# Altium schematic symbol library Schlib1.SchLib: 76 symbols (part 2 of 3)
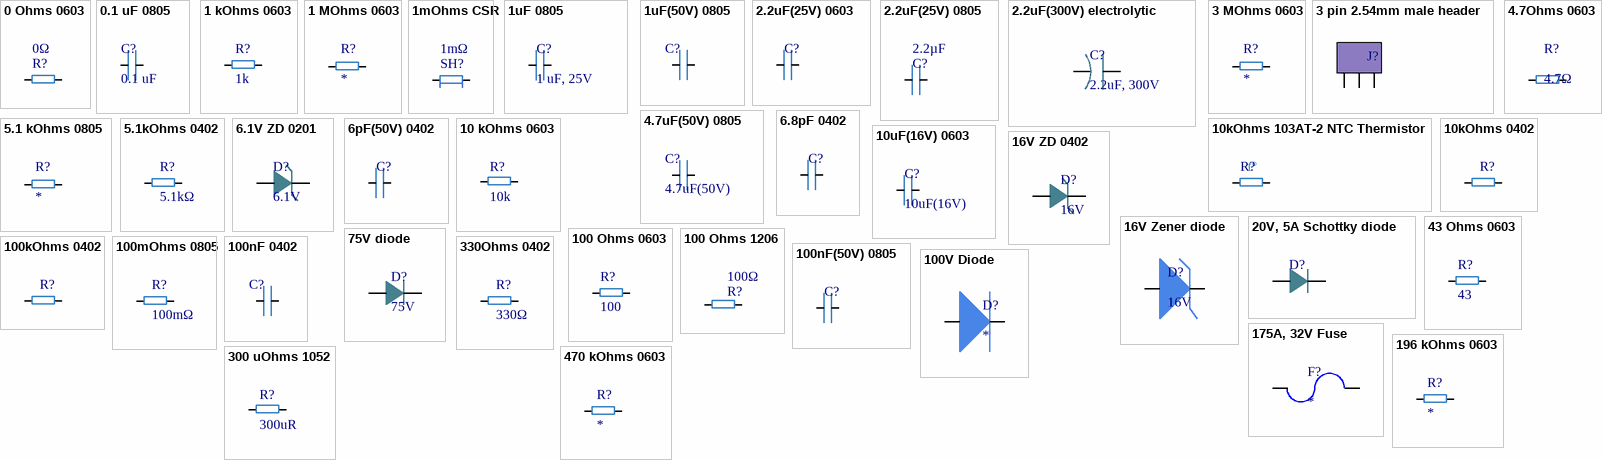
[diagram p2: symbols 0 Ohms 0603 to 470 kOhms 0603]

## 43 Ohms 0603
designator R?, comment 43
Fixed Resistor, Metal Glaze/thick Film, 0.1W, 43ohm, 75V, 1% +/-Tol, 100ppm/Cel, Surface Mount, 0603; Manufacturer: Bourns; Manufacturer Part Number: CR0603-FX-43R0ELF; Power: 100mW; Rated Temperature: 70°C; Value: 43R; Working Voltage: 50V; Temperature Coefficient (ppm/Cel): 100; Package Height: 0.45mm; Package Length: 1.6mm; Package Width: 0.8mm; Supplier: Mouser; Supplier Part Number: 652-CR0603FX-43R0ELF; RoHS: Yes; Category: Chip SMD Resistors; Stock: 66182; Pricing: 1=0.1, 10=0.012, 50=0.012, 100=0.01, 1000=0.005, 10000=0.002 (USD); Mounting Technology: Surface Mount; Pins: 2; Package Shape: Rectangular; Case/Package: 0603; Terminal Finish: Nickel; Min Operating Temperature: -55°C; Max Operating Temperature: 155°C; Tolerance: 1%; JESD-609 Code: e3; Resistor Type: FIXED RESISTOR; Construction: Chip; Packaging: Tape and Reel; Technology: RUTHENIUM OXIDE; Termination: Wraparound; Reach SVHC Compliant: Yes; RoHS Compliant: Yes; ComponentLink1URL: https://datasheet.ciiva.com:443/pdfs/VipMasterIC/IC/BOUR/BOUR-S-A0009069624/BOUR-S-A0009069624-1.pdf?src-supplier=IHS+Markit; ComponentLink1Description: https://datasheet.ciiva.com:443/pdfs/VipMasterIC/IC/BOUR/BOUR-S-A0009069624/BOUR-S-A0009069624-1.pdf?src-supplier=IHS+Markit; ComponentLink2URL: https://datasheet.ciiva.com/14986/chpreztr-14986457.pdf?src-supplier=Digikey; ComponentLink2Description: https://datasheet.ciiva.com/14986/chpreztr-14986457.pdf?src-supplier=Digikey
footprint BO_CR0603
pins: 1 27, 2 28

## 75V diode
designator D?, comment 75V
Rectifier Diode Small Signal Switching 75V 0.3A 4ns 2-Pin SOD-323 T/R; Manufacturer: Diodes Inc.; Manufacturer Part Number: 1N4148WS-7-F; Average Rectified Current: 150mA; Value: 2pF; Current: 2A; Element Configuration: Single; Forward Voltage: 715mV; Max Power Dissipation: 200mW; Number of Elements: 1; Peak Reverse Current: 1µA; Polarity: Standard; Supplier: Future Electronics; Supplier Part Number: 2196385; RoHS: Compliant; Category: Rectifier Diodes; Stock: 19821000; Pricing: 3000=0.0074, 12000=0.0071, 45000=0.0069, 120000=0.0067, 300000=0.0065 (USD); China RoHS: Compliant; Contact Plating: Tin; Current Rating: 150mA; Height: 1mm; Lead Free: Lead Free; Length: 1.8mm; Lifecycle Status: Production; Max Forward Surge Current (Ifsm): 2A; Max Operating Temperature: 150°C; Max Output current: 150mA; Max Repetitive Reverse Voltage (Vrrm): 75V; Max Reverse Voltage (DC): 75V; Max Surge Current: 2A; Min Breakdown Voltage: 75V; Min Operating Temperature: -65°C; Mounting Technology: Surface Mount; Pins: 2; Number of Terminals: 2; Output Current: 150mA; Packaging: Cut Tape; Peak Non-Repetitive Surge Current: 2A; Power Dissipation: 200mW; Power Rating: 200mW; Radiation Hardening: No; REACH SVHC: Yes; Recovery Time: 4ns; Reverse Recovery Time: 4ns; Reverse Standoff Voltage: 75V; Schedule B: 8541100070, 8541100070|8541100070|8541100070|8541100070|8541100070; Voltage: 75V; Voltage Rating (DC): 75V; Weight: 4.904468mg; Width: 1.4mm; ComponentLink1URL: https://datasheet.octopart.com:443/1N4148WS-7-F-Diodes-Inc.-datasheet-180548908.pdf?src-supplier=IHS; ComponentLink1Description: https://datasheet.octopart.com:443/1N4148WS-7-F-Diodes-Inc.-datasheet-180548908.pdf?src-supplier=IHS; ComponentLink2URL: https://datasheet.octopart.com:443/1N4148WS-7-F-Diodes-Inc.-datasheet-11839050.pdf?src-supplier=Newark; ComponentLink2Description: https://datasheet.octopart.com:443/1N4148WS-7-F-Diodes-Inc.-datasheet-11839050.pdf?src-supplier=Newark; ComponentLink3URL: https://datasheet.octopart.com:443/1N4148WS-7-F-Diodes-Inc.-datasheet-62305040.pdf?src-supplier=Newark; ComponentLink3Description: https://datasheet.octopart.com:443/1N4148WS-7-F-Diodes-Inc.-datasheet-62305040.pdf?src-supplier=Newark; ComponentLink4URL: https://datasheet.octopart.com:443/1N4148WS-7-F-Diodes-Inc.-datasheet-10031541.pdf?src-supplier=Newark; ComponentLink4Description: https://datasheet.octopart.com:443/1N4148WS-7-F-Diodes-Inc.-datasheet-10031541.pdf?src-supplier=Newark; ComponentLink5URL: https://datasheet.octopart.com:443/1N4148WS-7-F-Diodes-Inc.-datasheet-8329243.pdf?src-supplier=Newark; ComponentLink5Description: https://datasheet.octopart.com:443/1N4148WS-7-F-Diodes-Inc.-datasheet-8329243.pdf?src-supplier=Newark; ComponentLink6URL: https://datasheet.octopart.com:443/1N4148WS-7-F-Diodes-Inc.-datasheet-34441419.pdf?src-supplier=RS+(Formerly+Allied+Electronics); ComponentLink6Description: https://datasheet.octopart.com:443/1N4148WS-7-F-Diodes-Inc.-datasheet-34441419.pdf?src-supplier=RS+(Formerly+Allied+Electronics); ComponentLink7URL: https://sigma.octopart.com:443/138810740/technical_drawing/Diodes-Inc.-1N4148WS-7-F.pdf?src-supplier=Diodes+Inc+SCT; ComponentLink7Description: https://sigma.octopart.com:443/138810740/technical_drawing/Diodes-Inc.-1N4148WS-7-F.pdf?src-supplier=Diodes+Inc+SCT; ComponentLink8URL: https://datasheet.octopart.com:443/1N4148WS-7-F-Diodes-Inc.-datasheet-14053694.pdf?src-supplier=iiiC; ComponentLink8Description: https://datasheet.octopart.com:443/1N4148WS-7-F-Diodes-Inc.-datasheet-14053694.pdf?src-supplier=iiiC; ComponentLink9URL: https://datasheet.octopart.com:443/1N4148WS-7-F-Diodes-Inc.-datasheet-5392039.pdf?src-supplier=Future+Electronics; ComponentLink9Description: https://datasheet.octopart.com:443/1N4148WS-7-F-Diodes-Inc.-datasheet-5392039.pdf?src-supplier=Future+Electronics; ComponentLink10URL: https://datasheet.octopart.com:443/1N4148WS-7-F-Diodes-Inc.-datasheet-7284054.pdf?src-supplier=Jameco; ComponentLink10Description: https://datasheet.octopart.com:443/1N4148WS-7-F-Diodes-Inc.-datasheet-7284054.pdf?src-supplier=Jameco; ComponentLink11URL: https://datasheet.octopart.com:443/1N4148WS-7-F-Diodes-Inc.-datasheet-139480.pdf?src-supplier=DigiKey; ComponentLink11Description: https://datasheet.octopart.com:443/1N4148WS-7-F-Diodes-Inc.-datasheet-139480.pdf?src-supplier=DigiKey; ComponentLink12URL: https://datasheet.octopart.com:443/1N4148WS-7-F-Diodes-Inc.-datasheet-479.pdf?src-supplier=Mouser; ComponentLink12Description: https://datasheet.octopart.com:443/1N4148WS-7-F-Diodes-Inc.-datasheet-479.pdf?src-supplier=Mouser; ComponentLink13URL: http://sigma.octopart.com:80/15616861/materials_sheet/Diodes-Inc.-1N4148WS-7-F.pdf?src-supplier=Compliance+Statements; ComponentLink13Description: http://sigma.octopart.com:80/15616861/materials_sheet/Diodes-Inc.-1N4148WS-7-F.pdf?src-supplier=Compliance+Statements
pins: 1, 2

## 100 Ohms 0603
designator R?, comment 100
Fixed Resistor, Metal Glaze/thick Film, 0.1W, 100ohm, 75V, 1% +/-Tol, 100ppm/Cel, Surface Mount, 0603; Manufacturer: Bourns; Manufacturer Part Number: CR0603-FX-1000ELF; Power: 100mW; Rated Temperature: 70°C; Value: 100R; Working Voltage: 50V; Package Height: 0.45mm; Package Length: 1.6mm; Package Width: 0.8mm; Supplier: Avnet; Supplier Part Number: CR0603-FX-1000ELF; RoHS: Yes; Category: Chip SMD Resistors; Stock: 30000; Pricing: 5000=0.00217, 10000=0.00213, 20000=0.0021, 30000=0.00207, 40000=0.00203 (USD); Mounting Technology: Surface Mount; Pins: 2; Package Shape: Rectangular; Case/Package: 0603; Terminal Finish: Nickel; Min Operating Temperature: -55°C; Max Operating Temperature: 155°C; Tolerance: 1%; JESD-609 Code: e3; Resistor Type: FIXED RESISTOR; Construction: Chip; Packaging: Tape and Reel; Technology: RUTHENIUM OXIDE; Termination: Wraparound; Temperature Coefficient (ppm/Cel): 100; Reach SVHC Compliant: Yes; RoHS Compliant: Yes; ComponentLink1URL: https://datasheet.ciiva.com:443/pdfs/VipMasterIC/IC/BOUR/BOUR-S-A0009069624/BOUR-S-A0009069624-1.pdf?src-supplier=IHS+Markit; ComponentLink1Description: https://datasheet.ciiva.com:443/pdfs/VipMasterIC/IC/BOUR/BOUR-S-A0009069624/BOUR-S-A0009069624-1.pdf?src-supplier=IHS+Markit; ComponentLink2URL: https://datasheet.ciiva.com/11808/0900766b80fcdb72-11808031.pdf?src-supplier=Rs; ComponentLink2Description: https://datasheet.ciiva.com/11808/0900766b80fcdb72-11808031.pdf?src-supplier=Rs; ComponentLink3URL: https://datasheet.ciiva.com/41449/001055482-da-01-en-smd-wid-cr0603-fx-1000elf-100-ohm-1-10w-41449966.pdf?src-supplier=Conrad; ComponentLink3Description: https://datasheet.ciiva.com/41449/001055482-da-01-en-smd-wid-cr0603-fx-1000elf-100-ohm-1-10w-41449966.pdf?src-supplier=Conrad; ComponentLink4URL: https://datasheet.ciiva.com/7001/1902866-7001621.pdf?src-supplier=Newark; ComponentLink4Description: https://datasheet.ciiva.com/7001/1902866-7001621.pdf?src-supplier=Newark; ComponentLink5URL: https://datasheet.ciiva.com/31841/159chpreztr-31841547.pdf?src-supplier=Onlinecomponents.com; ComponentLink5Description: https://datasheet.ciiva.com/31841/159chpreztr-31841547.pdf?src-supplier=Onlinecomponents.com; ComponentLink6URL: https://datasheet.ciiva.com/7986/691949-7986155.pdf?src-supplier=Element14; ComponentLink6Description: https://datasheet.ciiva.com/7986/691949-7986155.pdf?src-supplier=Element14; ComponentLink7URL: https://datasheet.ciiva.com/6564/chpreztr-6564376.pdf?src-supplier=Digikey; ComponentLink7Description: https://datasheet.ciiva.com/6564/chpreztr-6564376.pdf?src-supplier=Digikey; ComponentLink8URL: https://datasheet.ciiva.com/6564/chpreztr-6564377.pdf?src-supplier=Digikey; ComponentLink8Description: https://datasheet.ciiva.com/6564/chpreztr-6564377.pdf?src-supplier=Digikey; ComponentLink9URL: https://datasheet.ciiva.com/6564/chpreztr-6564375.pdf?src-supplier=Digikey; ComponentLink9Description: https://datasheet.ciiva.com/6564/chpreztr-6564375.pdf?src-supplier=Digikey
footprint BO_CR0603
pins: 1 27, 2 28

## 100 Ohms 1206
designator R?, comment value 100Ω  (hidden comment: 100)
Res Thick Film 1206 100 Ohm 1% 0.5W(1/2W) ±100ppm/C Pad SMD T/R; Manufacturer: Bourns; Manufacturer Part Number: CRM1206-FX-1000ELF; Max Power Dissipation: 500mW; Temperature Coefficient: 100ppm/°C; Working Voltage: 200V; Supplier: Avnet; Supplier Part Number: 34AK1227; RoHS: Compliant; Category: Chip SMD Resistors; Stock: 13169; Pricing: 1=0.198, 25=0.066, 50=0.053, 100=0.041 (USD); Case/Package: 1206; China RoHS: Non-Compliant; Composition: Thick Film; Height: 550µm; Length: 3.0988mm; Lifecycle Status: Production; Max Operating Temperature: 155°C; Min Operating Temperature: -55°C; Mounting Technology: Surface Mount; Number of Terminals: 2; Number of Terminations: 2; Packaging: Tape & Reel (TR); Power Dissipation: 500mW; REACH SVHC: Yes; Schedule B: 8533210045, 8533210045|8533210045|8533210045|8533210045|8533210045; Tolerance: 1%; Width: 1.6mm; ComponentLink1URL: https://datasheet.octopart.com:443/CRM1206-FX-1000ELF-Bourns-datasheet-182141858.pdf?src-supplier=Master+Electronics; ComponentLink1Description: https://datasheet.octopart.com:443/CRM1206-FX-1000ELF-Bourns-datasheet-182141858.pdf?src-supplier=Master+Electronics; ComponentLink2URL: https://datasheet.octopart.com:443/CRM1206-FX-1000ELF-Bourns-datasheet-68302004.pdf?src-supplier=Master+Electronics; ComponentLink2Description: https://datasheet.octopart.com:443/CRM1206-FX-1000ELF-Bourns-datasheet-68302004.pdf?src-supplier=Master+Electronics; ComponentLink3URL: https://datasheet.octopart.com:443/CRM1206-FX-1000ELF-Bourns-datasheet-164353756.pdf?src-supplier=element14+APAC; ComponentLink3Description: https://datasheet.octopart.com:443/CRM1206-FX-1000ELF-Bourns-datasheet-164353756.pdf?src-supplier=element14+APAC; ComponentLink4URL: https://datasheet.octopart.com:443/CRM1206-FX-1000ELF-Bourns-datasheet-154729671.pdf?src-supplier=Electro+Sonic; ComponentLink4Description: https://datasheet.octopart.com:443/CRM1206-FX-1000ELF-Bourns-datasheet-154729671.pdf?src-supplier=Electro+Sonic; ComponentLink5URL: https://datasheet.octopart.com:443/CRM1206-FX-1000ELF-Bourns-datasheet-137068308.pdf?src-supplier=X-ON; ComponentLink5Description: https://datasheet.octopart.com:443/CRM1206-FX-1000ELF-Bourns-datasheet-137068308.pdf?src-supplier=X-ON; ComponentLink6URL: https://datasheet.octopart.com:443/CRM1206-FX-1000ELF-Bourns-datasheet-97424573.pdf?src-supplier=Burklin+Elektronik; ComponentLink6Description: https://datasheet.octopart.com:443/CRM1206-FX-1000ELF-Bourns-datasheet-97424573.pdf?src-supplier=Burklin+Elektronik; ComponentLink7URL: http://sigma.octopart.com:80/conflict_mineral_statement/Bourns-company-36.pdf?src-supplier=Compliance+Statements; ComponentLink7Description: http://sigma.octopart.com:80/conflict_mineral_statement/Bourns-company-36.pdf?src-supplier=Compliance+Statements
footprint R1206
pins: 1 27, 2 28

## 100kOhms 0402
designator R?, comment 100kΩ  (value not drawn)
Fixed Resistor, Metal Glaze/thick Film, 0.0625W, 100000ohm, 50V, 1% +/-Tol, 100ppm/Cel, Surface Mount, 0402; Manufacturer: Bourns; Manufacturer Part Number: CR0402-FX-1003GLF; Power: 62.5mW; Rated Temperature: 70°C; Value: 100kR; Temperature Coefficient (ppm/Cel): 100; Package Height: 0.35mm; Package Length: 1mm; Package Width: 0.5mm; Supplier: Avnet; Supplier Part Number: CR0402-FX-1003GLF; RoHS: Yes; Category: Chip SMD Resistors; Stock: 10000; Pricing: 10000=0.00131, 20000=0.00129, 40000=0.00097, 60000=0.00097, 80000=0.00096 (USD); Mounting Technology: Surface Mount; Pins: 2; Package Shape: Rectangular; Case/Package: 0402; Terminal Finish: Nickel; Min Operating Temperature: -55°C; Max Operating Temperature: 125°C; Tolerance: 1%; JESD-609 Code: e3; Resistor Type: FIXED RESISTOR; Construction: Chip; Packaging: Tape and Reel; Technology: RUTHENIUM OXIDE; Termination: Wraparound; Working Voltage: 50V; Reach SVHC Compliant: No; RoHS Compliant: Yes; ComponentLink1URL: https://datasheet.ciiva.com:443/pdfs/VipMasterIC/IC/BOUR/BOUR-S-A0008953887/BOUR-S-A0008953887-1.pdf?src-supplier=IHS+Markit; ComponentLink1Description: https://datasheet.ciiva.com:443/pdfs/VipMasterIC/IC/BOUR/BOUR-S-A0008953887/BOUR-S-A0008953887-1.pdf?src-supplier=IHS+Markit; ComponentLink2URL: https://datasheet.ciiva.com/9120/cr0402-9120747.pdf?src-supplier=Avnet; ComponentLink2Description: https://datasheet.ciiva.com/9120/cr0402-9120747.pdf?src-supplier=Avnet; ComponentLink3URL: https://datasheet.ciiva.com/6562/cr0402-6562985.pdf?src-supplier=Digikey; ComponentLink3Description: https://datasheet.ciiva.com/6562/cr0402-6562985.pdf?src-supplier=Digikey; ComponentLink4URL: https://datasheet.ciiva.com/6562/cr0402-6562981.pdf?src-supplier=Digikey; ComponentLink4Description: https://datasheet.ciiva.com/6562/cr0402-6562981.pdf?src-supplier=Digikey
footprint R0402
pins: 1 27, 2 28

## 100mOhms 0805
designator R?, comment 100mΩ
Res Thick Film 0805 0.1 Ohm 1% 0.25W(1/4W) ±100ppm/C Pad SMD T/R; Manufacturer: Bourns; Manufacturer Part Number: CRM0805-FX-R100ELF; Power Dissipation: 250mW; Temperature Coefficient: 100ppm/°C; Voltage Rating: 477mV; Working Voltage: 551mV; Supplier: Avnet; Supplier Part Number: CRM0805-FX-R100ELF; RoHS: Compliant; Category: Chip SMD Resistors; Stock: 15000; Pricing: 10000=0.04116, 20000=0.04095, 30000=0.04074, 50000=0.04053, 100000=0.04032 (USD); Case/Package: Molded; Case Code (Imperial): 0805; Case Code (Metric): 2012; China RoHS: Compliant; Composition: Thick Film; Contact Plating: Tin; Depth: 1.2mm; Height: 500µm; Length: 2mm; Lifecycle Status: Production; Max Operating Temperature: 155°C; Military Standard: Not; Min Operating Temperature: -55°C; Mounting Technology: Surface Mount; Pins: 2; Number of Terminals: 2; Packaging: Cut Tape; Power Rating: 250mW; REACH SVHC: Yes; Value: 100mΩ; Schedule B: 8533210045, 8533210045|8533210045, 8533210045|8533210045|8533210045, 8533210045|8533210045|8533210045|8533210045; Tolerance: 1%; Voltage Rating (DC): 477mV; Width: 1.2mm; ComponentLink1URL: https://datasheet.octopart.com:443/CRM0805-FX-R100ELF-Bourns-datasheet-182141858.pdf?src-supplier=Master+Electronics; ComponentLink1Description: https://datasheet.octopart.com:443/CRM0805-FX-R100ELF-Bourns-datasheet-182141858.pdf?src-supplier=Master+Electronics; ComponentLink2URL: https://datasheet.octopart.com:443/CRM0805-FX-R100ELF-Bourns-datasheet-68302004.pdf?src-supplier=Master+Electronics; ComponentLink2Description: https://datasheet.octopart.com:443/CRM0805-FX-R100ELF-Bourns-datasheet-68302004.pdf?src-supplier=Master+Electronics; ComponentLink3URL: https://datasheet.octopart.com:443/CRM0805-FX-R100ELF-Bourns-datasheet-164353756.pdf?src-supplier=Newark; ComponentLink3Description: https://datasheet.octopart.com:443/CRM0805-FX-R100ELF-Bourns-datasheet-164353756.pdf?src-supplier=Newark; ComponentLink4URL: https://datasheet.octopart.com:443/CRM0805-FX-R100ELF-Bourns-datasheet-27379021.pdf?src-supplier=Newark; ComponentLink4Description: https://datasheet.octopart.com:443/CRM0805-FX-R100ELF-Bourns-datasheet-27379021.pdf?src-supplier=Newark; ComponentLink5URL: https://datasheet.octopart.com:443/CRM0805-FX-R100ELF-Bourns-datasheet-21196278.pdf?src-supplier=Newark; ComponentLink5Description: https://datasheet.octopart.com:443/CRM0805-FX-R100ELF-Bourns-datasheet-21196278.pdf?src-supplier=Newark; ComponentLink6URL: https://datasheet.octopart.com:443/CRM0805-FX-R100ELF-Bourns-datasheet-97424573.pdf?src-supplier=Burklin+Elektronik; ComponentLink6Description: https://datasheet.octopart.com:443/CRM0805-FX-R100ELF-Bourns-datasheet-97424573.pdf?src-supplier=Burklin+Elektronik; ComponentLink7URL: https://datasheet.octopart.com:443/CRM0805-FX-R100ELF-Bourns-datasheet-10026694.pdf?src-supplier=element14; ComponentLink7Description: https://datasheet.octopart.com:443/CRM0805-FX-R100ELF-Bourns-datasheet-10026694.pdf?src-supplier=element14; ComponentLink8URL: http://sigma.octopart.com:80/conflict_mineral_statement/Bourns-company-36.pdf?src-supplier=Compliance+Statements; ComponentLink8Description: http://sigma.octopart.com:80/conflict_mineral_statement/Bourns-company-36.pdf?src-supplier=Compliance+Statements
pins: 1 27, 2 28

## 100nF 0402
designator C?, comment 100nF  (value not drawn)
Ceramic Capacitor, Multilayer, Ceramic, 10V, 10% +Tol, 10% -Tol, X7R, 15% TC, 0.1uF, Surface Mount, 0402; Manufacturer: Samsung; Manufacturer Part Number: CL05B104KP5VPNC; Supplier: Digikey; Supplier Part Number: 1276-CL05B104KP5VPNCCT-ND; RoHS: Yes; Category: Ceramic Capacitors; Stock: 102735; Pricing: 1=0.1, 10=0.037, 50=0.0248, 100=0.0212, 500=0.01366, 1000=0.01271, 2500=0.01148, 5000=0.01032 (USD); Pins: 2; Dielectric Material: Ceramic; Terminal Finish: Nickel; JESD-609 Code: e3; Capacitor Type: Ceramic; Reach SVHC Compliant: Yes; RoHS Compliant: Yes; ComponentLink1URL: https://datasheet.ciiva.com:443/pdfs/VipMasterIC/IC/SEMS/SEMS-S-A0001327714/SEMS-S-A0001327463-1.pdf?src-supplier=IHS+Markit; ComponentLink1Description: https://datasheet.ciiva.com:443/pdfs/VipMasterIC/IC/SEMS/SEMS-S-A0001327714/SEMS-S-A0001327463-1.pdf?src-supplier=IHS+Markit
footprint C0402
pins: 1 26, 2 25

## 100nF(50V) 0805
designator C?, comment 100nF(50V)  (value not drawn)
Ceramic Capacitor, Multilayer, Ceramic, 50V, 10% +Tol, 10% -Tol, X7R, 15% TC, 0.1uF, Surface Mount, 0805; Manufacturer: Yageo; Manufacturer Part Number: CC0805KRX7R9BB104; Multilayer: Yes; Supplier: Digikey; Supplier Part Number: 311-1140-1-ND; RoHS: Yes; Category: Ceramic Capacitors; Stock: 1267136; Pricing: 1=0.08, 10=0.022, 50=0.0188, 100=0.016, 500=0.0148, 1000=0.0144 (USD); Mounting Technology: Surface Mount; Pins: 2; Dielectric Material: Ceramic; Package Shape: Rectangular; Case/Package: 0805; Terminal Finish: Nickel; Min Operating Temperature: -55°C; Max Operating Temperature: 125°C; JESD-609 Code: e3; Value: 100nF; Capacitor Type: Ceramic; Tolerance  (fill in as +-): 10%; Package Style: SMTMeter; Packaging: Tape and Reel; Tolerance (fill in as +-): 10%; Rated DC Voltage (URdc): 50V; Temperature Characteristics Code: X7R; Termination: Wraparound; Length: 2mm; Width: 1.25mm; Height: 0.85mm; Reach SVHC Compliant: Yes; RoHS Compliant: Yes; ComponentLink1URL: https://datasheet.ciiva.com:443/pdfs/VipMasterIC/IC/YAGO/YAGO-S-A0003557223/YAGO-S-A0003557223-1.pdf?src-supplier=IHS+Markit; ComponentLink1Description: https://datasheet.ciiva.com:443/pdfs/VipMasterIC/IC/YAGO/YAGO-S-A0003557223/YAGO-S-A0003557223-1.pdf?src-supplier=IHS+Markit; ComponentLink2URL: https://datasheet.ciiva.com/11786/0900766b80d84f1d-11786009.pdf?src-supplier=Rs; ComponentLink2Description: https://datasheet.ciiva.com/11786/0900766b80d84f1d-11786009.pdf?src-supplier=Rs; ComponentLink3URL: https://datasheet.ciiva.com/11464/upy-gphc-x7r-6-3v-to-50v-8-11464757.pdf?src-supplier=Avnet; ComponentLink3Description: https://datasheet.ciiva.com/11464/upy-gphc-x7r-6-3v-to-50v-8-11464757.pdf?src-supplier=Avnet; ComponentLink4URL: https://datasheet.ciiva.com/155/mlccorderingcode-155930.pdf?src-supplier=Digikey; ComponentLink4Description: https://datasheet.ciiva.com/155/mlccorderingcode-155930.pdf?src-supplier=Digikey; ComponentLink5URL: https://datasheet.ciiva.com/28450/1489800-28450805.pdf?src-supplier=Element14; ComponentLink5Description: https://datasheet.ciiva.com/28450/1489800-28450805.pdf?src-supplier=Element14; ComponentLink6URL: https://datasheet.ciiva.com/46393/1734573-46393307.pdf?src-supplier=Element14; ComponentLink6Description: https://datasheet.ciiva.com/46393/1734573-46393307.pdf?src-supplier=Element14; ComponentLink7URL: https://datasheet.ciiva.com/155/mlccorderingcode-155929.pdf?src-supplier=Digikey; ComponentLink7Description: https://datasheet.ciiva.com/155/mlccorderingcode-155929.pdf?src-supplier=Digikey; ComponentLink8URL: https://datasheet.ciiva.com/155/mlccorderingcode-155931.pdf?src-supplier=Digikey; ComponentLink8Description: https://datasheet.ciiva.com/155/mlccorderingcode-155931.pdf?src-supplier=Digikey; ComponentLink9URL: https://datasheet.ciiva.com/29242/445210-da-01-en-kerko-chip-0805-x7r-0-1uf-10proz-50vg-29242074.pdf?src-supplier=Conrad; ComponentLink9Description: https://datasheet.ciiva.com/29242/445210-da-01-en-kerko-chip-0805-x7r-0-1uf-10proz-50vg-29242074.pdf?src-supplier=Conrad
pins: 1 26, 2 25

## 100V Diode
designator D?
Diode Fast Recovery Diode 100V 0.5A 2-Pin TUMD T/R; Manufacturer: Rohm; Manufacturer Part Number: RF05VAM1STR; Average Rectified Current: 500mA; Reverse Recovery Time: 25ns; Max Surge Current: 6A; Recovery Time: 12ns; Forward Voltage: 820mV; Max Reverse Current: 10uA; Supplier: Mouser; Supplier Part Number: 755-RF05VAM1STR; RoHS: Yes; Category: Rectifier Diodes; Stock: 50105; Pricing: 1=0.24, 10=0.128, 50=0.128, 100=0.098, 1000=0.081, 10000=0.048 (USD); Mounting Technology: Surface Mount; Case/Package: SMD/SMT; Min Operating Temperature: -55°C; Max Operating Temperature: 150°C; Packaging: Tape and Reel; Forward Current: 500mA; Package Quantity: 3000; Max Reverse Voltage (DC): 100V; Series: -; RoHS Compliant: Yes; ComponentLink1URL: http://www.mouser.com/ds/2/348/rf05vam1s-520110.pdf?src-supplier=Mouser; ComponentLink1Description: http://www.mouser.com/ds/2/348/rf05vam1s-520110.pdf?src-supplier=Mouser; ComponentLink2URL: http://rohmfs.rohm.com/en/techdata_basic/diode/taping/Taping_TUMD2M_TR-e.pdf?src-supplier=Digikey; ComponentLink2Description: http://rohmfs.rohm.com/en/techdata_basic/diode/taping/Taping_TUMD2M_TR-e.pdf?src-supplier=Digikey; ComponentLink3URL: http://rohmfs.rohm.com/en/products/databook/datasheet/discrete/diode/fast_recovery/rf05vam1s.pdf?src-supplier=Digikey; ComponentLink3Description: http://rohmfs.rohm.com/en/products/databook/datasheet/discrete/diode/fast_recovery/rf05vam1s.pdf?src-supplier=Digikey; ComponentLink4URL: http://rohmfs.rohm.com/en/products/databook/datasheet/discrete/diode/fast_recovery/rf05vam1s.pdf?src-supplier=Avnet; ComponentLink4Description: http://rohmfs.rohm.com/en/products/databook/datasheet/discrete/diode/fast_recovery/rf05vam1s.pdf?src-supplier=Avnet
footprint Diode 100V
pins: 1, 2

## 175A, 32V Fuse
designator F?
Electric Fuse, 175A, 32VDC, 2000A (IR), Inline/holder, MEGA; Manufacturer: Littelfuse; Manufacturer Part Number: 0298175.ZXEH; Rated Breaking Capacity: 2kA; Voltage Rating: 32V; Joule-integral-Nom: 168000J; Trip Time or Delay: 14400s; Body Breadth: 19.05mm; Body Height: 10.67mm; Body Length or Diameter: 29.21mm; Supplier: Digikey; Supplier Part Number: F3325-ND; RoHS: Yes; Category: Fuses; Stock: 506; Pricing: 1=6.69, 5=5.55, 10=5.121, 50=4.2468, 100=3.9162, 250=3.51636, 500=3.2393, 1000=3.135 (USD); Mounting Technology: Holder; Min Operating Temperature: -40°C; Max Operating Temperature: 125°C; Circuit Protection Type: Electric Fuse; Fuse Size: MEGA; Current Rating: 175A; Termination: TAB/BLADE; Packaging: Bulk; RoHS Compliant: Yes; Reach SVHC Compliant: Yes; ComponentLink1URL: https://datasheet.ciiva.com:443/pdfs/VipMasterIC/IC/LFSI/LFSI-S-A0007892035/LFSI-S-A0007892035-1.pdf?src-supplier=IHS+Markit; ComponentLink1Description: https://datasheet.ciiva.com:443/pdfs/VipMasterIC/IC/LFSI/LFSI-S-A0007892035/LFSI-S-A0007892035-1.pdf?src-supplier=IHS+Markit; ComponentLink2URL: https://datasheet.ciiva.com/1547/68897-1547977.pdf?src-supplier=Element14; ComponentLink2Description: https://datasheet.ciiva.com/1547/68897-1547977.pdf?src-supplier=Element14
pins: 54, 55

## 196 kOhms 0603
designator R?
Fixed Resistor, Metal Glaze/thick Film, 0.1W, 196000ohm, 75V, 1% +/-Tol, 100ppm/Cel, Surface Mount, 0603; Manufacturer: Yageo; Manufacturer Part Number: RC0603FR-07196KL; Additional Feature: LASER TRIMMABLE; Power: 100mW; Rated Temperature: 70°C; Value: 196kR; Temperature Coefficient (ppm/Cel): 100; Package Height: 0.45mm; Package Length: 1.6mm; Package Width: 0.8mm; Supplier: Future Electronics; Supplier Part Number: 1319548; RoHS: Yes; Category: Chip SMD Resistors; Stock: 40000; Pricing: 5000=0.0009, 50000=0.0008, 150000=0.0008, 375000=0.0008, 1000000=0.0008 (USD); Mounting Technology: Surface Mount; Pins: 2; Package Shape: Rectangular; Case/Package: 0603; Terminal Finish: Nickel; Min Operating Temperature: -55°C; Max Operating Temperature: 155°C; Tolerance: 1%; JESD-609 Code: e3; Resistor Type: FIXED RESISTOR; Construction: Chip; Packaging: Tape and Reel; Technology: METAL GLAZE/THICK FILM; Termination: Wraparound; Working Voltage: 75V; Reach SVHC Compliant: Yes; RoHS Compliant: Yes; ComponentLink1URL: https://datasheet.ciiva.com:443/pdfs/VipMasterIC/IC/YAGO/YAGO-S-A0008145938/YAGO-S-A0008145938-1.pdf?src-supplier=IHS+Markit; ComponentLink1Description: https://datasheet.ciiva.com:443/pdfs/VipMasterIC/IC/YAGO/YAGO-S-A0008145938/YAGO-S-A0008145938-1.pdf?src-supplier=IHS+Markit; ComponentLink2URL: https://datasheet.ciiva.com/11819/0900766b80f96399-11819267.pdf?src-supplier=Rs; ComponentLink2Description: https://datasheet.ciiva.com/11819/0900766b80f96399-11819267.pdf?src-supplier=Rs; ComponentLink3URL: https://datasheet.ciiva.com/12558/rc0603-272842-12558635.pdf?src-supplier=Mouser; ComponentLink3Description: https://datasheet.ciiva.com/12558/rc0603-272842-12558635.pdf?src-supplier=Mouser; ComponentLink4URL: https://datasheet.ciiva.com/2455/pyu-r-int-thick-7-2455101.pdf?src-supplier=Digikey; ComponentLink4Description: https://datasheet.ciiva.com/2455/pyu-r-int-thick-7-2455101.pdf?src-supplier=Digikey; ComponentLink5URL: https://datasheet.ciiva.com/2455/pyu-r-int-thick-7-2455102.pdf?src-supplier=Digikey; ComponentLink5Description: https://datasheet.ciiva.com/2455/pyu-r-int-thick-7-2455102.pdf?src-supplier=Digikey; ComponentLink6URL: https://datasheet.ciiva.com/2455/pyu-r-int-thick-7-2455103.pdf?src-supplier=Digikey; ComponentLink6Description: https://datasheet.ciiva.com/2455/pyu-r-int-thick-7-2455103.pdf?src-supplier=Digikey
footprint BO_CR0603
pins: 1 27, 2 28

## 300 uOhms 1052
designator R?, comment 300uR
Res 0.0003 Ohm 0.5% 10W 3920; Manufacturer: Resion; Manufacturer Part Number: PEWM3920DL300K9; Supplier: DigiKey; Supplier Part Number: 4506-PEWM3920DL300K9CT-ND; Category: Chip SMD Resistors; Stock: 2948; Pricing: 1=1.04, 10=0.656, 25=0.5696, 50=0.5202, 100=0.4809, 250=0.44104, 500=0.41796, 1000=0.3996 (USD)
footprint CSR
pins: 1 27, 2 28

## 330Ohms 0402
designator R?, comment 330Ω
Fixed Resistor, Metal Glaze/thick Film, 0.0625W, 330ohm, 50V, 1% +/-Tol, 100ppm/Cel, Surface Mount, 0402; Manufacturer: Bourns; Manufacturer Part Number: CR0402-FX-3300GLF; Manufacturer Series: CR0402; Power: 62.5mW; Rated Temperature: 70°C; Value: 330R; Temperature Coefficient (ppm/Cel): 100; Package Height: 0.35mm; Package Length: 1mm; Package Width: 0.5mm; Supplier: Digikey; Supplier Part Number: CR0402-FX-3300GLFCT-ND; RoHS: Yes; Category: Chip SMD Resistors; Stock: 21171; Pricing: 1=0.1, 10=0.014, 25=0.01, 50=0.008, 100=0.0063, 250=0.00472, 500=0.00384, 1000=0.00316, 5000=0.00211 (USD); Mounting Technology: Surface Mount; Pins: 2; Package Shape: Rectangular; Case/Package: 0402; Terminal Finish: Nickel; Min Operating Temperature: -55°C; Max Operating Temperature: 125°C; Tolerance: 1%; JESD-609 Code: e3; Resistor Type: FIXED RESISTOR; Construction: Chip; Packaging: Tape and Reel; Series: CR0402; Technology: RUTHENIUM OXIDE; Termination: Wraparound; Working Voltage: 50V; Reach SVHC Compliant: No; RoHS Compliant: Yes; ComponentLink1URL: https://datasheet.ciiva.com:443/pdfs/VipMasterIC/IC/BOUR/BOUR-S-A0008953887/BOUR-S-A0008953887-1.pdf?src-supplier=IHS+Markit; ComponentLink1Description: https://datasheet.ciiva.com:443/pdfs/VipMasterIC/IC/BOUR/BOUR-S-A0008953887/BOUR-S-A0008953887-1.pdf?src-supplier=IHS+Markit; ComponentLink2URL: https://datasheet.ciiva.com/14985/cr0402-14985211.pdf?src-supplier=Digikey; ComponentLink2Description: https://datasheet.ciiva.com/14985/cr0402-14985211.pdf?src-supplier=Digikey; ComponentLink3URL: https://datasheet.ciiva.com/9119/cr0402-9119935.pdf?src-supplier=Avnet; ComponentLink3Description: https://datasheet.ciiva.com/9119/cr0402-9119935.pdf?src-supplier=Avnet
pins: 1 27, 2 28

## 470 kOhms 0603
designator R?
Fixed Resistor, Metal Glaze/thick Film, 0.1W, 470000ohm, 75V, 1% +/-Tol, 100ppm/Cel, Surface Mount, 0603; Manufacturer: Stackpole Electronics; Manufacturer Part Number: RMCF0603FT470K; Power: 100mW; Rated Temperature: 70°C; Value: 470kR; Temperature Coefficient (ppm/Cel): 100; Package Height: 0.45mm; Package Length: 1.55mm; Package Width: 0.8mm; Reference Standard: AEC-Q200; Supplier: Digikey; Supplier Part Number: RMCF0603FT470KCT-ND; RoHS: Yes; Category: Chip SMD Resistors; Stock: 563348; Pricing: 1=0.1, 10=0.02, 100=0.0091, 1000=0.0048, 2500=0.00386 (USD); Mounting Technology: Surface Mount; Pins: 2; Package Shape: Rectangular; Case/Package: 0603; Terminal Finish: Nickel; Min Operating Temperature: -55°C; Max Operating Temperature: 155°C; Tolerance: 1%; JESD-609 Code: e3; Resistor Type: FIXED RESISTOR; Construction: Rectangular; Packaging: Tape and Reel; Technology: METAL GLAZE/THICK FILM; Termination: Wraparound; Working Voltage: 75V; Reach SVHC Compliant: Yes; RoHS Compliant: Yes; ComponentLink1URL: https://datasheet.ciiva.com:443/pdfs/VipMasterIC/IC/SEIE/SEIE-S-A0009541969/SEIE-S-A0009541969-1.pdf?src-supplier=IHS+Markit; ComponentLink1Description: https://datasheet.ciiva.com:443/pdfs/VipMasterIC/IC/SEIE/SEIE-S-A0009541969/SEIE-S-A0009541969-1.pdf?src-supplier=IHS+Markit; ComponentLink2URL: https://www.seielect.com/Catalog/SEI-RMCF_RMCP.pdf?src-supplier=Digikey; ComponentLink2Description: https://www.seielect.com/Catalog/SEI-RMCF_RMCP.pdf?src-supplier=Digikey; ComponentLink3URL: https://www.seielect.com/catalog/SEI-RMCF_RMCP.pdf?src-supplier=Avnet; ComponentLink3Description: https://www.seielect.com/catalog/SEI-RMCF_RMCP.pdf?src-supplier=Avnet; ComponentLink4URL: https://www.seielect.com/catalog/SEI-Packaging.pdf?src-supplier=Digikey; ComponentLink4Description: https://www.seielect.com/catalog/SEI-Packaging.pdf?src-supplier=Digikey; ComponentLink5URL: https://datasheet.octopart.com/RMCF0603FT470K-Stackpole-Electronics-datasheet-141193804.pdf?src-supplier=Master+Electronics; ComponentLink5Description: https://datasheet.octopart.com/RMCF0603FT470K-Stackpole-Electronics-datasheet-141193804.pdf?src-supplier=Master+Electronics
footprint BO_CR0603
pins: 1 27, 2 28

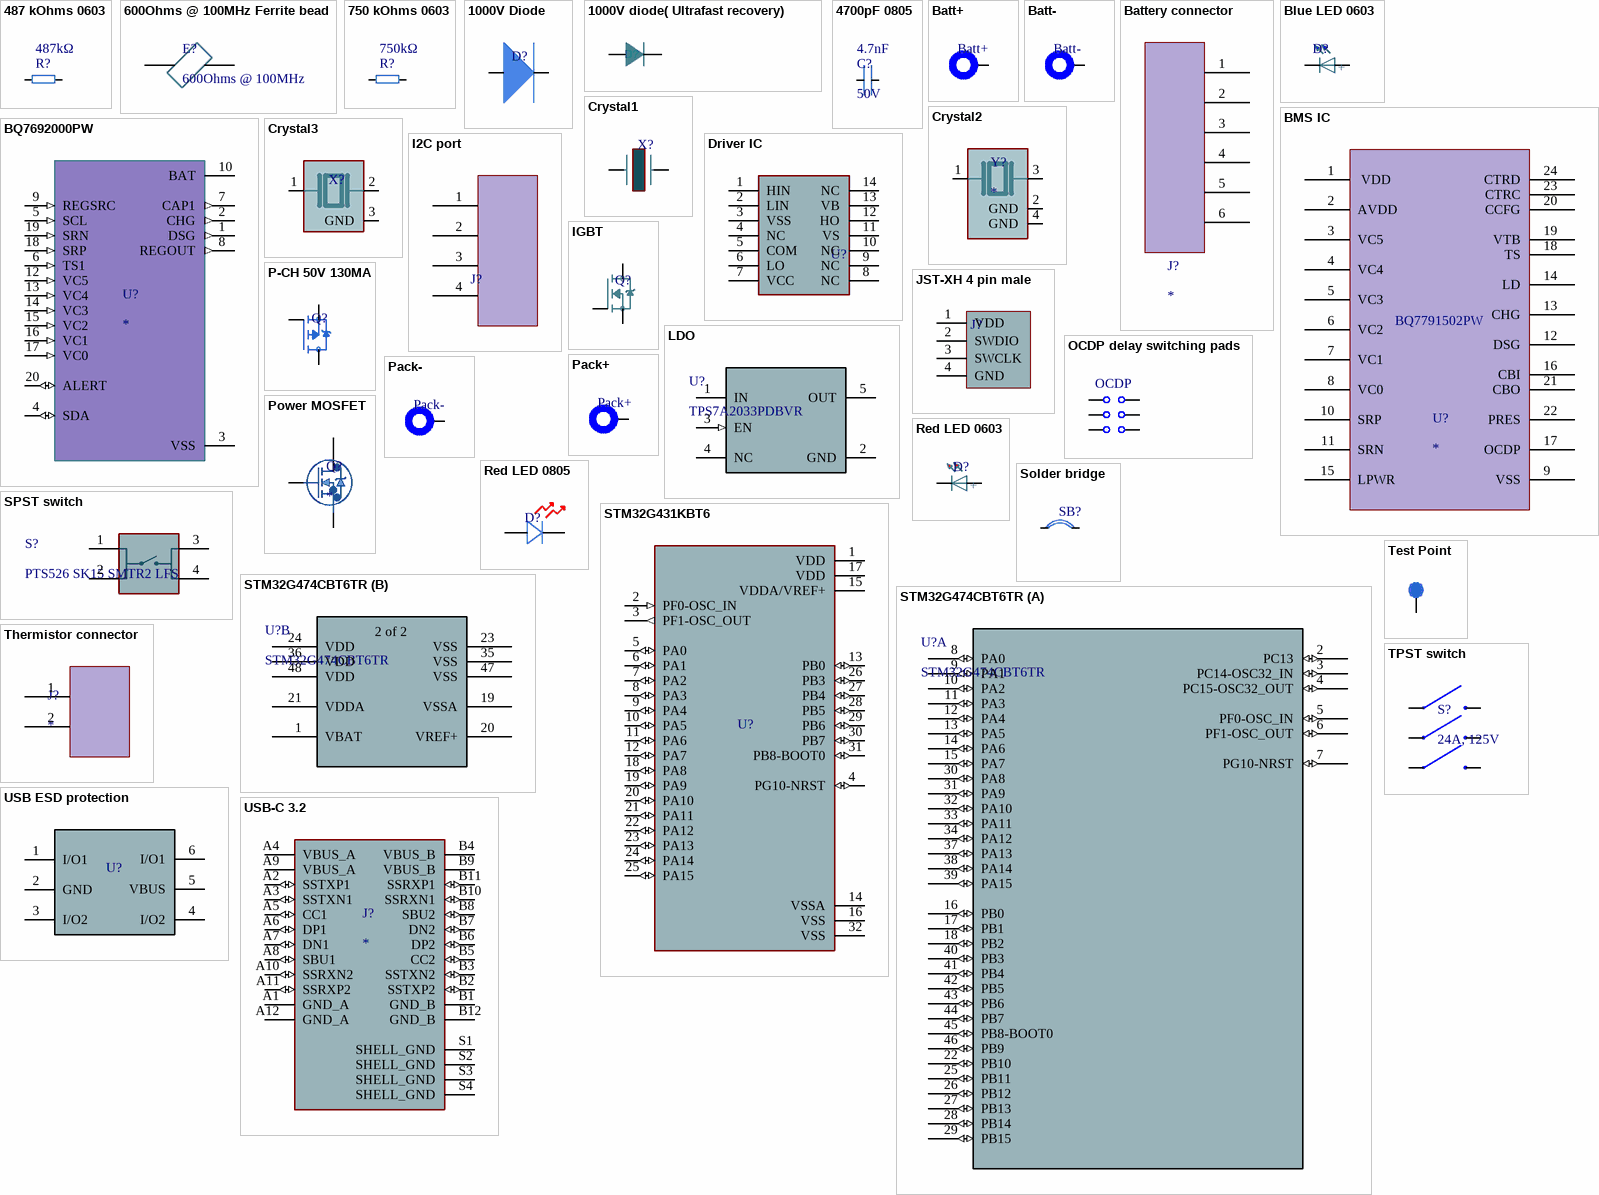
[diagram p1: symbols 487 kOhms 0603 to USB-C 3.2]

## 487 kOhms 0603
designator R?, comment value 487kΩ  (hidden comment: 487)
CRCW Series 0603 0.1 W 487 kOhm ±1 % ±100 ppm/K SMT Thick Film Chip Resistor; Manufacturer: Vishay; Manufacturer Part Number: CRCW0603487KFKEA; Max Power Dissipation: 100mW; Temperature Coefficient: 100ppm/°C; Tolerance: 1%; Voltage Rating: 75V; Supplier: Avnet; Supplier Part Number: CRCW0603487KFKEA; RoHS: Compliant; Category: Chip SMD Resistors; Stock: 45000; Pricing: 5000=0.00203, 10000=0.00189, 20000=0.00186, 30000=0.00182, 40000=0.00179 (USD); Case/Package: 0603; Case Code (Imperial): 0603; Case Code (Metric): 0603; China RoHS: Non-Compliant; Composition: Thick Film; Contact Plating: Tin; Depth: 850µm; Features: Automotive AEC-Q200; Height: 450µm; Lead Free: Lead Free; Length: 1.55mm; Lifecycle Status: Production; Max Operating Temperature: 155°C; Military Standard: Not; Min Operating Temperature: -55°C; Mounting Technology: Surface Mount; Pins: 2; Number of Terminals: 2; Number of Terminations: 2; Packaging: Cut Tape; Power Dissipation: 100mW; Power Rating: 100mW; Radiation Hardening: No; REACH SVHC: Yes; Schedule B: 8533210045, 8533210045|8533210045, 8533210045|8533210045|8533210045, 8533210045|8533210045|8533210045|8533210045; Termination: SMD/SMT; Voltage Rating (DC): 75V; Weight: 2.012816mg; Width: 850µm; Working Voltage: 75V; ComponentLink1URL: https://datasheet.octopart.com:443/CRCW0603487KFKEA-Vishay-datasheet-175423584.pdf?src-supplier=IHS; ComponentLink1Description: https://datasheet.octopart.com:443/CRCW0603487KFKEA-Vishay-datasheet-175423584.pdf?src-supplier=IHS; ComponentLink2URL: https://datasheet.octopart.com:443/CRCW0603487KFKEA-Vishay-datasheet-62316122.pdf?src-supplier=Future+Electronics; ComponentLink2Description: https://datasheet.octopart.com:443/CRCW0603487KFKEA-Vishay-datasheet-62316122.pdf?src-supplier=Future+Electronics; ComponentLink3URL: https://datasheet.octopart.com:443/CRCW0603487KFKEA-Vishay-datasheet-5300368.pdf?src-supplier=Future+Electronics; ComponentLink3Description: https://datasheet.octopart.com:443/CRCW0603487KFKEA-Vishay-datasheet-5300368.pdf?src-supplier=Future+Electronics; ComponentLink4URL: https://datasheet.octopart.com:443/CRCW0603487KFKEA-Vishay-datasheet-190005712.pdf?src-supplier=TME; ComponentLink4Description: https://datasheet.octopart.com:443/CRCW0603487KFKEA-Vishay-datasheet-190005712.pdf?src-supplier=TME; ComponentLink5URL: https://datasheet.octopart.com:443/CRCW0603487KFKEA.-Vishay-datasheet-83961561.pdf?src-supplier=element14+APAC; ComponentLink5Description: https://datasheet.octopart.com:443/CRCW0603487KFKEA.-Vishay-datasheet-83961561.pdf?src-supplier=element14+APAC; ComponentLink6URL: https://datasheet.octopart.com:443/CRCW0603487KFKEA-Vishay-datasheet-66077789.pdf?src-supplier=element14+APAC; ComponentLink6Description: https://datasheet.octopart.com:443/CRCW0603487KFKEA-Vishay-datasheet-66077789.pdf?src-supplier=element14+APAC; ComponentLink7URL: https://datasheet.octopart.com:443/CRCW0603487KFKEA-Vishay-datasheet-62317939.pdf?src-supplier=element14+APAC; ComponentLink7Description: https://datasheet.octopart.com:443/CRCW0603487KFKEA-Vishay-datasheet-62317939.pdf?src-supplier=element14+APAC; ComponentLink8URL: https://datasheet.octopart.com:443/CRCW0603487KFKEA-Vishay-datasheet-14722531.pdf?src-supplier=element14+APAC; ComponentLink8Description: https://datasheet.octopart.com:443/CRCW0603487KFKEA-Vishay-datasheet-14722531.pdf?src-supplier=element14+APAC; ComponentLink9URL: https://datasheet.octopart.com:443/CRCW0603487KFKEA-Vishay-datasheet-5299586.pdf?src-supplier=element14+APAC; ComponentLink9Description: https://datasheet.octopart.com:443/CRCW0603487KFKEA-Vishay-datasheet-5299586.pdf?src-supplier=element14+APAC; ComponentLink10URL: https://datasheet.octopart.com:443/CRCW0603487KFKEA-Vishay-datasheet-10380026.pdf?src-supplier=element14+APAC; ComponentLink10Description: https://datasheet.octopart.com:443/CRCW0603487KFKEA-Vishay-datasheet-10380026.pdf?src-supplier=element14+APAC; ComponentLink11URL: https://datasheet.octopart.com:443/CRCW0603487KFKEA.-Vishay-datasheet-78776211.pdf?src-supplier=Newark; ComponentLink11Description: https://datasheet.octopart.com:443/CRCW0603487KFKEA.-Vishay-datasheet-78776211.pdf?src-supplier=Newark; ComponentLink12URL: https://datasheet.octopart.com:443/CRCW0603487KFKEA-Vishay-datasheet-11761042.pdf?src-supplier=Newark; ComponentLink12Description: https://datasheet.octopart.com:443/CRCW0603487KFKEA-Vishay-datasheet-11761042.pdf?src-supplier=Newark; ComponentLink13URL: https://datasheet.octopart.com:443/CRCW0603487KFKEA-Vishay-datasheet-11516975.pdf?src-supplier=Newark; ComponentLink13Description: https://datasheet.octopart.com:443/CRCW0603487KFKEA-Vishay-datasheet-11516975.pdf?src-supplier=Newark; ComponentLink14URL: https://datasheet.octopart.com:443/CRCW0603487KFKEA-Vishay-datasheet-41302739.pdf?src-supplier=Newark; ComponentLink14Description: https://datasheet.octopart.com:443/CRCW0603487KFKEA-Vishay-datasheet-41302739.pdf?src-supplier=Newark; ComponentLink15URL: https://datasheet.octopart.com:443/CRCW0603487KFKEA-Vishay-datasheet-33013972.pdf?src-supplier=Newark; ComponentLink15Description: https://datasheet.octopart.com:443/CRCW0603487KFKEA-Vishay-datasheet-33013972.pdf?src-supplier=Newark; ComponentLink16URL: https://datasheet.octopart.com:443/CRCW0603487KFKEA-Vishay-datasheet-21226360.pdf?src-supplier=Newark; ComponentLink16Description: https://datasheet.octopart.com:443/CRCW0603487KFKEA-Vishay-datasheet-21226360.pdf?src-supplier=Newark; ComponentLink17URL: https://datasheet.octopart.com:443/CRCW0603487KFKEA-Vishay-Dale-datasheet-47688880.pdf?src-supplier=RS+(Formerly+Allied+Electronics); ComponentLink17Description: https://datasheet.octopart.com:443/CRCW0603487KFKEA-Vishay-Dale-datasheet-47688880.pdf?src-supplier=RS+(Formerly+Allied+Electronics); ComponentLink18URL: https://datasheet.octopart.com:443/CRCW0603487KFKEA-Vishay-datasheet-12001583.pdf?src-supplier=RS+(Formerly+Allied+Electronics); ComponentLink18Description: https://datasheet.octopart.com:443/CRCW0603487KFKEA-Vishay-datasheet-12001583.pdf?src-supplier=RS+(Formerly+Allied+Electronics); ComponentLink19URL: https://datasheet.octopart.com:443/CRCW0603487KFKEA-Vishay-datasheet-5306405.pdf?src-supplier=RS+(Formerly+Allied+Electronics); ComponentLink19Description: https://datasheet.octopart.com:443/CRCW0603487KFKEA-Vishay-datasheet-5306405.pdf?src-supplier=RS+(Formerly+Allied+Electronics); ComponentLink20URL: https://datasheet.octopart.com/D-CRCW-e3-Standard-Thick-Film-Chip-Resistors-Vishay-datasheet-family-64.pdf; ComponentLink20Description: https://datasheet.octopart.com/D-CRCW-e3-Standard-Thick-Film-Chip-Resistors-Vishay-datasheet-family-64.pdf; ComponentLink21URL: https://datasheet.octopart.com:443/CRCW0603487KFKEA-Vishay-datasheet-8445837.pdf?src-supplier=element14; ComponentLink21Description: https://datasheet.octopart.com:443/CRCW0603487KFKEA-Vishay-datasheet-8445837.pdf?src-supplier=element14; ComponentLink22URL: https://datasheet.octopart.com:443/CRCW0603487KFKEA-Vishay-datasheet-5377433.pdf?src-supplier=Garrett; ComponentLink22Description: https://datasheet.octopart.com:443/CRCW0603487KFKEA-Vishay-datasheet-5377433.pdf?src-supplier=Garrett; ComponentLink23URL: https://datasheet.octopart.com:443/CRCW0603487KFKEA-Vishay-datasheet-148188.pdf?src-supplier=Garrett; ComponentLink23Description: https://datasheet.octopart.com:443/CRCW0603487KFKEA-Vishay-datasheet-148188.pdf?src-supplier=Garrett; ComponentLink24URL: https://datasheet.octopart.com:443/CRCW0603487KFKEA-Vishay-datasheet-30224.pdf?src-supplier=Garrett; ComponentLink24Description: https://datasheet.octopart.com:443/CRCW0603487KFKEA-Vishay-datasheet-30224.pdf?src-supplier=Garrett; ComponentLink25URL: http://sigma.octopart.com:80/rohs_certificate/D-CRCW-e3-Standard-Thick-Film-Chip-Resistors-Vishay-family-102.pdf?src-supplier=Compliance+Statements; ComponentLink25Description: http://sigma.octopart.com:80/rohs_certificate/D-CRCW-e3-Standard-Thick-Film-Chip-Resistors-Vishay-family-102.pdf?src-supplier=Compliance+Statements
footprint BO_CR0603
pins: 1 27, 2 28

## 600Ohms @ 100MHz Ferrite bead
designator E?, comment 600Ohms @ 100MHz
Ferrite Bead (Chip Bead), 2 x 1.25 x 1.25mm (0805), 277Ohms impedance at 25 MHz | Laird Performance Materials HZ0805E601R-10; MF: Laird-Signal Integrity Products; SnapEDA_Link: https://www.snapeda.com/parts/HZ0805E601R-10/Laird-Signal+Integrity+Products/view-part/?ref=snap; Package: 0805 Laird; Value: *; MP: HZ0805E601R-10; Check_prices: https://www.snapeda.com/parts/HZ0805E601R-10/Laird-Signal+Integrity+Products/view-part/?ref=eda
footprint FB_HZ0805E601R-10
pins: 1, 2

## 750 kOhms 0603
designator R?, comment value 750kΩ  (hidden comment: 750)
Res Thick Film 0603 750K Ohm 1% 1/10W ±100ppm/°C Molded SMD Punched Carrier T/R; Manufacturer: Panasonic; Manufacturer Part Number: ERJ-3EKF7503V; Max Power Dissipation: 100mW; Voltage Rating: 75V; Supplier: Arrow Electronics; Supplier Part Number: ERJ-3EKF7503V; RoHS: Compliant; Category: Chip SMD Resistors; Stock: 45236; Pricing: 1=0.057, 10=0.012, 25=0.012, 100=0.007, 250=0.007, 500=0.006, 1000=0.005, 3000=0.005, 6000=0.004, 15000=0.004, 30000=0.003 (USD); Case/Package: 0603; Case Code (Imperial): 0603; China RoHS: Non-Compliant; Composition: Thick Film; Contact Plating: Tin; Depth: 800µm; Features: Automotive AEC-Q200; Height: 450µm; Lead Free: Lead Free; Length: 1.6mm; Lifecycle Status: Production; Max Operating Temperature: 155°C; Military Standard: Not; Min Operating Temperature: -55°C; Mounting Technology: Surface Mount; Number of Terminals: 2; Number of Terminations: 2; Packaging: Cut Tape; Power Dissipation: 100mW; Power Rating: 100mW; Radiation Hardening: No; REACH SVHC: Yes; Schedule B: 8533210045, 8533210045|8533210045, 8533210045|8533210045|8533210045, 8533210045|8533210045|8533210045|8533210045; Temperature Coefficient: 100ppm/°C; Termination: SMD/SMT; Tolerance: 1%; Width: 800µm; Working Voltage: 75V; ComponentLink1URL: https://datasheet.octopart.com:443/ERJ3EKF7503V-Panasonic-datasheet-182147282.pdf?src-supplier=IHS; ComponentLink1Description: https://datasheet.octopart.com:443/ERJ3EKF7503V-Panasonic-datasheet-182147282.pdf?src-supplier=IHS; ComponentLink2URL: https://datasheet.octopart.com:443/ERJ-3EKF7503V-Panasonic-datasheet-13266541.pdf?src-supplier=RS+(Formerly+Allied+Electronics); ComponentLink2Description: https://datasheet.octopart.com:443/ERJ-3EKF7503V-Panasonic-datasheet-13266541.pdf?src-supplier=RS+(Formerly+Allied+Electronics); ComponentLink3URL: https://datasheet.octopart.com:443/ERJ-3EKF7503V-Panasonic-datasheet-48891056.pdf?src-supplier=Newark; ComponentLink3Description: https://datasheet.octopart.com:443/ERJ-3EKF7503V-Panasonic-datasheet-48891056.pdf?src-supplier=Newark; ComponentLink4URL: https://datasheet.octopart.com:443/ERJ-3EKF7503V-Panasonic-datasheet-168681906.pdf?src-supplier=Farnell; ComponentLink4Description: https://datasheet.octopart.com:443/ERJ-3EKF7503V-Panasonic-datasheet-168681906.pdf?src-supplier=Farnell; ComponentLink5URL: https://datasheet.octopart.com:443/ERJ-3EKF7503V-Panasonic-datasheet-136608610.pdf?src-supplier=Farnell; ComponentLink5Description: https://datasheet.octopart.com:443/ERJ-3EKF7503V-Panasonic-datasheet-136608610.pdf?src-supplier=Farnell; ComponentLink6URL: https://datasheet.octopart.com:443/ERJ-3EKF7503V-Panasonic---ECG-datasheet-10025800.pdf?src-supplier=Farnell; ComponentLink6Description: https://datasheet.octopart.com:443/ERJ-3EKF7503V-Panasonic---ECG-datasheet-10025800.pdf?src-supplier=Farnell; ComponentLink7URL: https://datasheet.octopart.com:443/ERJ-3EKF7503V-Panasonic---ECG-datasheet-8853621.pdf?src-supplier=Farnell; ComponentLink7Description: https://datasheet.octopart.com:443/ERJ-3EKF7503V-Panasonic---ECG-datasheet-8853621.pdf?src-supplier=Farnell; ComponentLink8URL: https://datasheet.octopart.com:443/ERJ-3EKF7503V-Panasonic---ECG-datasheet-15994758.pdf?src-supplier=Farnell; ComponentLink8Description: https://datasheet.octopart.com:443/ERJ-3EKF7503V-Panasonic---ECG-datasheet-15994758.pdf?src-supplier=Farnell; ComponentLink9URL: https://datasheet.octopart.com:443/ERJ-3EKF7503V-Panasonic-datasheet-5313456.pdf?src-supplier=element14+APAC; ComponentLink9Description: https://datasheet.octopart.com:443/ERJ-3EKF7503V-Panasonic-datasheet-5313456.pdf?src-supplier=element14+APAC; ComponentLink10URL: https://datasheet.octopart.com:443/ERJ-3EKF7503V-Panasonic-datasheet-154766169.pdf?src-supplier=Master+Electronics; ComponentLink10Description: https://datasheet.octopart.com:443/ERJ-3EKF7503V-Panasonic-datasheet-154766169.pdf?src-supplier=Master+Electronics; ComponentLink11URL: https://datasheet.octopart.com:443/ERJ3EKF7503V-Panasonic-datasheet-138819429.pdf?src-supplier=Burklin+Elektronik; ComponentLink11Description: https://datasheet.octopart.com:443/ERJ3EKF7503V-Panasonic-datasheet-138819429.pdf?src-supplier=Burklin+Elektronik; ComponentLink12URL: https://datasheet.octopart.com:443/ERJ-3EKF7503V-Panasonic-datasheet-82288794.pdf?src-supplier=Panasonic+SCT; ComponentLink12Description: https://datasheet.octopart.com:443/ERJ-3EKF7503V-Panasonic-datasheet-82288794.pdf?src-supplier=Panasonic+SCT; ComponentLink13URL: https://datasheet.octopart.com/ERJ-3EKF7503V-Panasonic-datasheet-78375410.pdf; ComponentLink13Description: https://datasheet.octopart.com/ERJ-3EKF7503V-Panasonic-datasheet-78375410.pdf; ComponentLink14URL: https://datasheet.octopart.com:443/ERJ-3EKF7503V-Panasonic-datasheet-118621.pdf?src-supplier=DigiKey; ComponentLink14Description: https://datasheet.octopart.com:443/ERJ-3EKF7503V-Panasonic-datasheet-118621.pdf?src-supplier=DigiKey; ComponentLink15URL: https://datasheet.octopart.com:443/ERJ-3EKF7503V-Panasonic-datasheet-41391857.pdf?src-supplier=Electro+Sonic; ComponentLink15Description: https://datasheet.octopart.com:443/ERJ-3EKF7503V-Panasonic-datasheet-41391857.pdf?src-supplier=Electro+Sonic; ComponentLink16URL: https://datasheet.octopart.com:443/ERJ-3EKF7503V-Panasonic-datasheet-38423196.pdf?src-supplier=Future+Electronics; ComponentLink16Description: https://datasheet.octopart.com:443/ERJ-3EKF7503V-Panasonic-datasheet-38423196.pdf?src-supplier=Future+Electronics
footprint BO_CR0603
pins: 1 27, 2 28

## 1000V Diode
designator D?, comment 1000W  (value not drawn)
Diode Standard 1000V 1A SOD123FL; Manufacturer: Revvo; Manufacturer Part Number: 1N4007W; Supplier: DigiKey; Supplier Part Number: 5272-1N4007WCT-ND; Category: Uncategorized; Stock: 2049; Pricing: 1=0.1, 10=0.059, 100=0.036, 500=0.02584, 1000=0.02252 (USD)
pins: 1, 2

## 1000V diode( Ultrafast recovery)
designator D?, comment 1000V  (value not drawn)
US1M; ki_keywords: Schottky; ki_description: Schottky Diode; Datasheet: https://diotec.com/de/produktliste/SBD.html; Manufacturer Product Number: US1M
footprint DO-214AC_SMA
pins: 1, 2

## 4700pF 0805
designator C?, comment 50V  value 4.7nF
WCAP-CSGP 0805 (2012Metric) Ceramic Capacitor 0.079Lx0.049W 2.00mmx1.25mm X7R ±10% 4700pF; Manufacturer: Wurth Elektronik; Manufacturer Part Number: 885012207090; Insulation Resistance: 10GΩ; Supplier: DigiKey; Supplier Part Number: 732-8072-1-ND; RoHS: Compliant; Category: Ceramic Capacitors; Stock: 13537; Pricing: 1=0.1, 10=0.055, 50=0.0378, 100=0.0327, 500=0.02396, 1000=0.0213 (USD); Case/Package: 0805; Case Code (Imperial): 0805; Case Code (Metric): 2012; Height: 800µm; Length: 2mm; Material: Ceramic; Max Operating Temperature: 125°C; Min Operating Temperature: -55°C; Mounting Technology: Surface Mount; Thickness: 889µm; Tolerance: 10%; Voltage Rating: 50V; Width: 1.25mm; ComponentLink1URL: https://datasheet.octopart.com:443/885012207090-W%C3%BCrth-Elektronik-datasheet-137006526.pdf?src-supplier=Upverter; ComponentLink1Description: https://datasheet.octopart.com:443/885012207090-W%C3%BCrth-Elektronik-datasheet-137006526.pdf?src-supplier=Upverter; ComponentLink2URL: https://datasheet.octopart.com:443/885012207090-Wurth-Elektronik-datasheet-159617621.pdf?src-supplier=Newark; ComponentLink2Description: https://datasheet.octopart.com:443/885012207090-Wurth-Elektronik-datasheet-159617621.pdf?src-supplier=Newark; Parameter 1: *
footprint C0805
pins: 1 26, 2 25

## Batt+
designator Batt+, comment Power pad  (value not drawn)
Powerplus High Current Terminal; Manufacturer: Wurth Electronics; Manufacturer Part Number: S93515; Supplier: Digikey; Supplier Part Number: 2101-S93515-ND; RoHS: No; Category: Terminals; Stock: 33869; Pricing: 1=1.59, 10=1.352, 25=1.2668, 99=1.14929, 198=1.09439, 297=1.0635, 594=1.01273, 1089=0.97034, 2574=0.9375 (USD)
footprint Screw connector
footprint Power through hole pads
pins: 1 "Power pad"

## Batt-
designator Batt-, comment Power pad  (value not drawn)
Powerplus High Current Terminal; Manufacturer: Wurth Electronics; Manufacturer Part Number: S93515; Supplier: Digikey; Supplier Part Number: 2101-S93515-ND; RoHS: No; Category: Terminals; Stock: 33869; Pricing: 1=1.59, 10=1.352, 25=1.2668, 99=1.14929, 198=1.09439, 297=1.0635, 594=1.01273, 1089=0.97034, 2574=0.9375 (USD)
footprint Screw connector
footprint Power through hole pads
pins: 1 "Power pad"